# Altium footprint library TB6612FNG.PcbLib: 1 footprints
Each footprint in its own frame and in the unit in brackets; x right, y up, seen from the top. Pads: shape width x height; smd on the part's side, far side on the other; paste and mask are expansions set on the pad; w line width, h text height; cw(c..) or ccw(c..) is an arc to the next point about the centre after c.
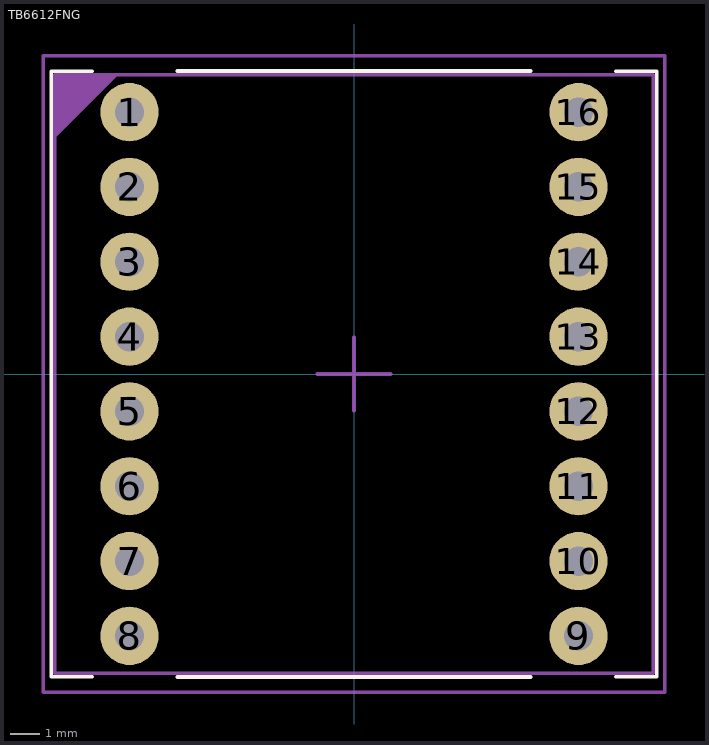
[diagram p0: the footprint, top view; thin cyan lines are the x and y axes]

## TB6612FNG [mm]
pads (16):
  round 1.98 hole 1: 1(-7.62,8.89) 2(-7.62,6.35) 3(-7.62,3.81) 4(-7.62,1.27) 5(-7.62,-1.27) 6(-7.62,-3.81) 7(-7.62,-6.35) 8(-7.62,-8.89) 9(7.62,-8.89) 10(7.62,-6.35) 11(7.62,-3.81) 12(7.62,-1.27) 13(7.62,1.27) 14(7.62,3.81) 15(7.62,6.35) 16(7.62,8.89)
Top Overlay:
  lines w0.127: -8.89,-10.28 -10.275,-10.28 -10.275,10.28 -8.89,10.28 ; -6,-10.285 6,-10.285 ; -6,10.285 6,10.285 ; 8.89,-10.28 10.275,-10.28 10.275,10.28 8.89,10.28
Top Assembly:
  region: -8,10.16 -10.16,10.16 -10.16,8
  lines w0.127: -10.16,-10.16 -10.16,10.16 10.16,10.16 10.16,-10.16 -10.16,-10.16
Top Courtyard (Mech15):
  lines w0.127: -1.25,0 1.25,0 ; 0,-1.25 0,1.25 ; -10.55,-10.8 -10.55,10.8 10.55,10.8 10.55,-10.8 -10.55,-10.8
3D body "TB6612FNG Module.STEP": height 6.12, standoff -5.99, extent -10.452,-10.28 10.452,10.7